# Altium footprint library SM_SOT416_GATE_SOURCE_DRAIN.PcbLib: 1 footprints
Each footprint in its own frame and in the unit in brackets; x right, y up, seen from the top. Pads: shape width x height; smd on the part's side, far side on the other; paste and mask are expansions set on the pad; w line width, h text height; cw(c..) or ccw(c..) is an arc to the next point about the centre after c.
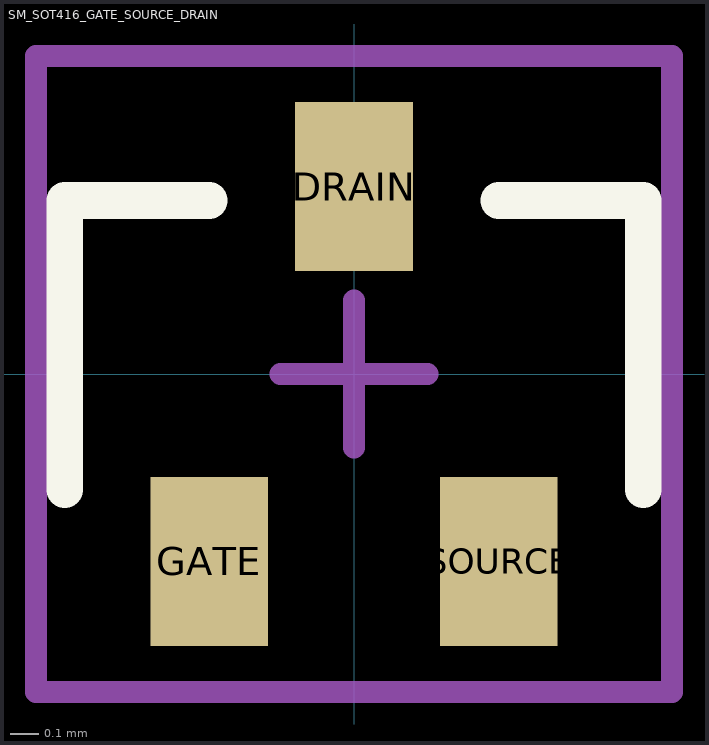
[diagram p0: the footprint, top view; thin cyan lines are the x and y axes]

## SM_SOT416_GATE_SOURCE_DRAIN [mil]
pads (3):
  rect 16x23 smd: DRAIN(0,25.49) GATE(-19.68,-25.49) SOURCE(19.68,-25.49)
Top Overlay:
  lines w5: -39.37,-15.75 -39.37,23.62 -19.68,23.62 ; 19.68,23.62 39.37,23.62 39.37,-15.75
Mechanical 15:
  lines w3: -10,0 10,0 ; 0,-10 0,10 ; -43.31,-43.31 43.31,-43.31 43.31,43.31 17.68,43.31 -43.31,43.31 -43.31,-43.31
3D body: height 9.84, standoff 0, extent -5.9,17.72 5.91,33.47
3D body: height 9.84, standoff 0, extent 13.78,-33.46 25.59,-17.71
3D body: height 9.84, standoff 0, extent -25.59,-33.46 -13.78,-17.71
3D body: height 35.43, standoff 0, extent -32.48,-17.72 32.48,17.72